# Altium footprint library ONSEMI_MFP4-2.5X4.4.PcbLib: 1 footprints
Each footprint in its own frame and in the unit in brackets; x right, y up, seen from the top. Pads: shape width x height; smd on the part's side, far side on the other; paste and mask are expansions set on the pad; w line width, h text height; cw(c..) or ccw(c..) is an arc to the next point about the centre after c.
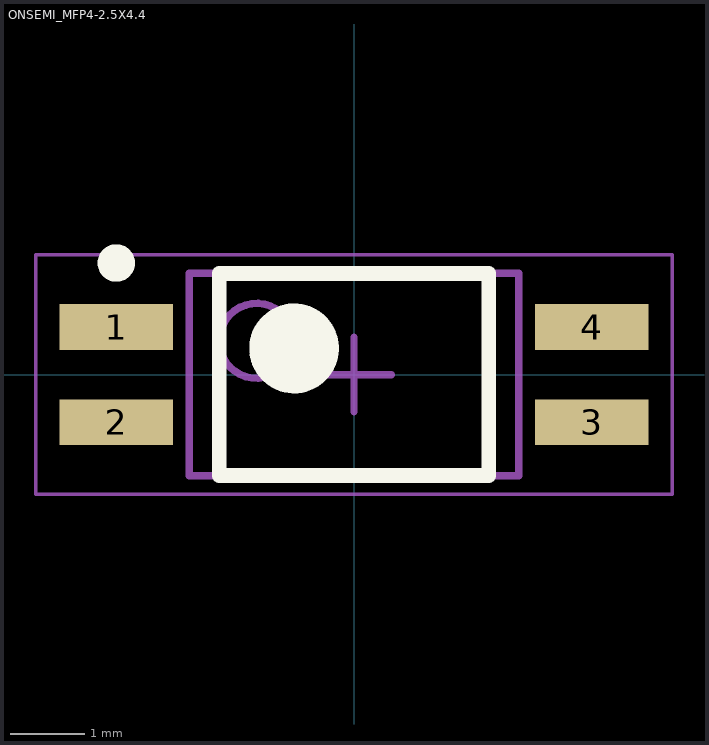
[diagram p0: the footprint, top view; thin cyan lines are the x and y axes]

## ONSEMI_MFP4-2.5X4.4 [mm] "ONSEMI_MFP4-2.5X4.4"
height 2.39
pads (4):
  rect 1.52x0.61 smd: 1(-3.175,0.635) 2(-3.175,-0.635) 3(3.175,-0.635) 4(3.175,0.635)
Top Overlay:
  circle w0.25: c-3.175,1.49 r0.125
  circle w0.6: c-0.8,0.35 r0.3
  lines w0.2: -1.8,-1.35 -1.8,1.35 1.8,1.35 1.8,-1.35 -1.8,-1.35
Mechanical 13:
  circle w0.1: c-1.3,0.45 r0.5
  lines w0.1: -2.2,-1.35 -2.2,1.35 2.2,1.35 2.2,-1.35 -2.2,-1.35
Mechanical 15:
  lines w0.05: -4.25,-1.6 -4.25,1.6 4.25,1.6 4.25,-1.6 -4.25,-1.6
  lines w0.1: -0.5,0 0.5,0 ; 0,-0.5 0,0.5
3D body: height 2.39, standoff 0, extent -2.2,-1.35 2.2,1.35